# EAGLE library part U_5VSWITCHER_LM2576SX-5.0/NOPB (library devon)
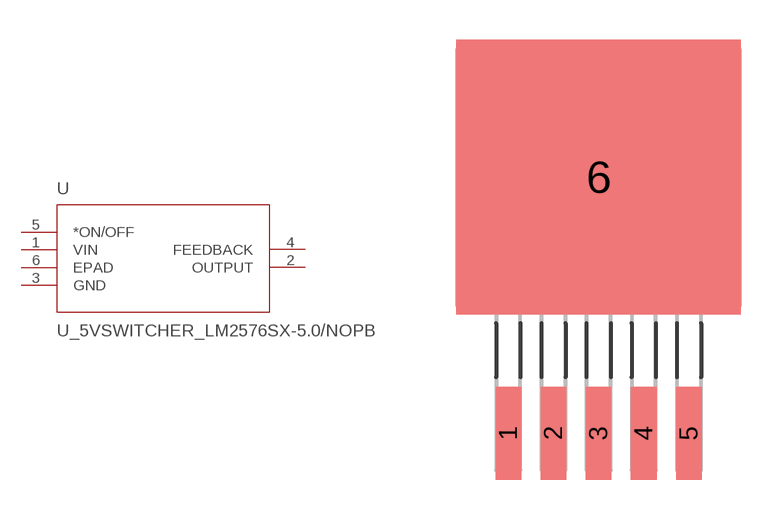
[diagram p7: symbol with the pads of KTT5_6P22X6P86; footprint KTT5_6P22X6P86]

Designator prefix U

## U_5VSWITCHER_LM2576SX-5.0/NOPB (COPYRIGHT: Copyright C 2015 Accelerated Designs. All rights reserved; DATASHEETURL: httpwww.ti.comlitgpnTL257505; FAMILY_NAME: STEPDOWN REGULATOR; GENERIC_PART_NUMBER: TL257505; INDUSTRY_STD_PKG_TYPE: DDPAKTO263; MANUFACTURER: Texas Instruments; MANUFACTURER_PART_NUMBER: tl257505_ktt_5; PACKAGE_DESIGNATOR: KTT; PIN_COUNT: 5; VENDOR: Texas Instruments)  [KTT5_6P22X6P86]
1  VIN  in
2  OUTPUT  out
3  GND  pwr
4  FEEDBACK  pas
5  *ON/OFF  pas
6  EPAD  pas

## Footprint KTT5_6P22X6P86 (pad centres in mm)
smd 0.965 x 3.505: 1 -3.4,-9.652; 2 -1.7,-9.652; 3 0,-9.652; 4 1.7,-9.652; 5 3.4,-9.652
smd 10.719 x 10.363: 6 0,0